# EAGLE library part 24X1_LCD_108MM (library custom)
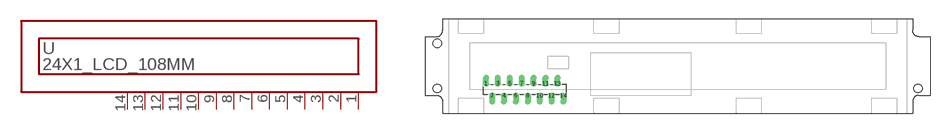
[diagram p5: symbol with the pads of 24X1_LCD_108MM; footprint 24X1_LCD_108MM]

Designator prefix -

## 24X1_LCD_108MM  [24X1_LCD_108MM]
1  1-GND
2  2-VCC
3  3-RESET
4  4-RS
5  5-R/W
6  6-E
7  7-DB0
8  8-DB1
9  9-DB2
10  10-DB3
11  11-DB4
12  12-DB5
13  13-DB6
14  14-DB7

## Footprint 24X1_LCD_108MM (pad centres in mm)
drill 0.8 offset: 1 -40.894,-3.81; 2 -39.624,-6.35; 3 -38.354,-3.81; 4 -37.084,-6.35; 5 -35.814,-3.81; 6 -34.544,-6.35; 7 -33.274,-3.81; 8 -32.004,-6.35; 9 -30.734,-3.81; 10 -29.464,-6.35; 11 -28.194,-3.81; 12 -26.924,-6.35; 13 -25.654,-3.81; 14 -24.384,-6.35
hole 1.778 at -51.308,-4.813
hole 1.778 at 51.308,-4.813
hole 1.778 at -51.308,4.813